# EAGLE library part ADS1115_BOARD (library chiptron_petus_cz)
Board with ADS1115 ADC which is compatible with chinese boards
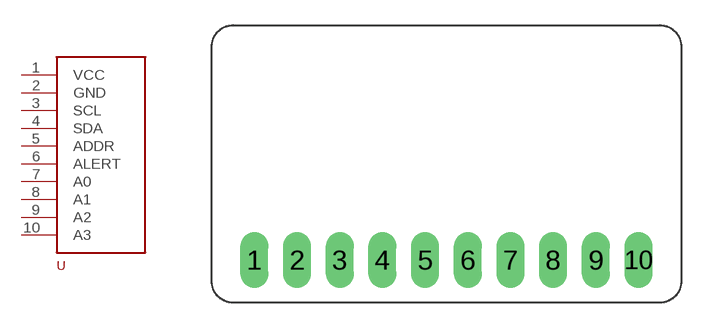
[diagram p15: symbol with the pads of ADS1115_ADS; footprint ADS1115_ADS]

Designator prefix -

## ADS1115_BOARD  [ADS1115_ADS]
1  VCC
2  GND
3  SCL
4  SDA
5  ADDR
6  ALERT
7  A0
8  A1
9  A2
10  A3

## Footprint ADS1115_ADS (pad centres in mm)
ADS1115 board
drill 0.8 pad 1.676 long: 1 0,0; 2 2.54,0; 3 5.08,0; 4 7.62,0; 5 10.16,0; 6 12.7,0; 7 15.24,0; 8 17.78,0; 9 20.32,0; 10 22.86,0